# EAGLE library part PES_EXP_B (library inanna)
Expansion Header B on PandaBoard ES
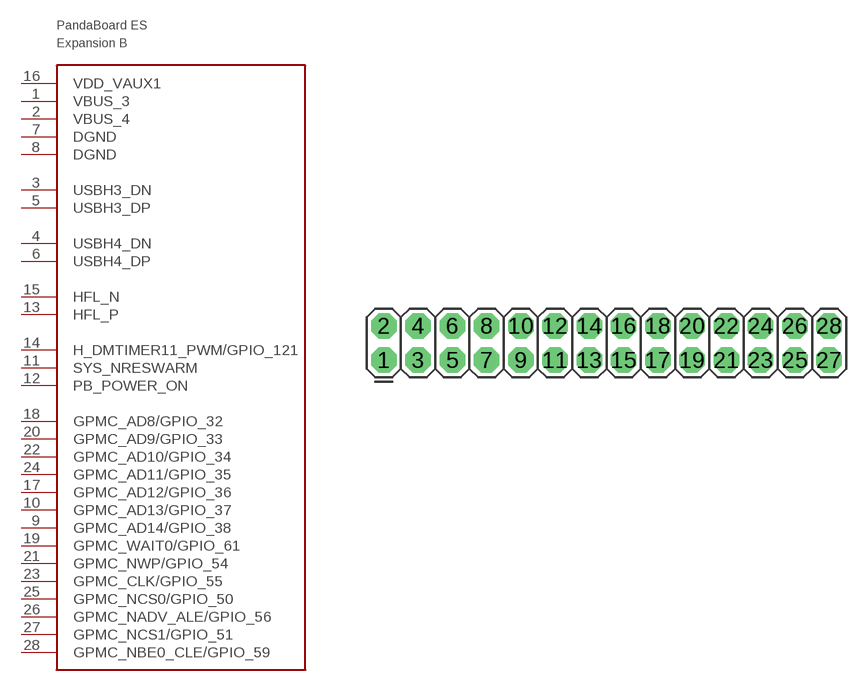
[diagram p1: symbol with the pads of 28-PIN_0.1"; footprint 28-PIN_0.1"]

Designator prefix -

## PES_EXP_B  [28-PIN_0.1"]
1  VBUS_3
2  VBUS_4
3  USBH3_DN
4  USBH4_DN
5  USBH3_DP
6  USBH4_DP
7  DGND
8  DGND
9  GPMC_AD14/GPIO_38
10  GPMC_AD13/GPIO_37
11  SYS_NRESWARM
12  PB_POWER_ON
13  HFL_P
14  H_DMTIMER11_PWM/GPIO_121
15  HFL_N
16  VDD_VAUX1
17  GPMC_AD12/GPIO_36
18  GPMC_AD8/GPIO_32
19  GPMC_WAIT0/GPIO_61
20  GPMC_AD9/GPIO_33
21  GPMC_NWP/GPIO_54
22  GPMC_AD10/GPIO_34
23  GPMC_CLK/GPIO_55
24  GPMC_AD11/GPIO_35
25  GPMC_NCS0/GPIO_50
26  GPMC_NADV_ALE/GPIO_56
27  GPMC_NCS1/GPIO_51
28  GPMC_NBE0_CLE/GPIO_59

## Footprint 28-PIN_0.1" (pad centres in mm)
drill 1.016 pad 1.88 octagon: 1 -16.51,-1.27; 2 -16.51,1.27; 3 -13.97,-1.27; 4 -13.97,1.27; 5 -11.43,-1.27; 6 -11.43,1.27; 7 -8.89,-1.27; 8 -8.89,1.27; 9 -6.35,-1.27; 10 -6.35,1.27; 11 -3.81,-1.27; 12 -3.81,1.27; 13 -1.27,-1.27; 14 -1.27,1.27; 15 1.27,-1.27; 16 1.27,1.27; 17 3.81,-1.27; 18 3.81,1.27; 19 6.35,-1.27; 20 6.35,1.27; 21 8.89,-1.27; 22 8.89,1.27; 23 11.43,-1.27; 24 11.43,1.27; 25 13.97,-1.27; 26 13.97,1.27; 27 16.51,-1.27; 28 16.51,1.27